# EAGLE library part XBEE_UPDATE (library xbee_improved)
Digi XBee and XBee Pro XBees are tiny blue chips that can communicate wirelessly with each other. They can do simple things, like replacing a couple of wires in serial communication, which is nice when you want to make a remote for your paintball vehicle. SparkFun Products SparkFun XBee Buying Guide <https://www.sparkfun.com/pages/xbee_guide> SparkFun XBee Explorer USB <https://www.sparkfun.com/products/11812> (WRL-11812) Breakout Board for XBee Module <https://www.sparkfun.com/products/8276> (WRL-8276) SparkFun XBee Explorer Regulated <https://www.sparkfun.com/products/11373> (WRL-11373) SparkFun XBee Explorer Dongle <https://www.sparkfun.com/products/11697> (WRL-11697) SparkFun XBee Shield <https://www.sparkfun.com/products/12847> (WRL-12847) SparkFun XBee Explorer Serial <https://www.sparkfun.com/products/13225> (WRL-13225)
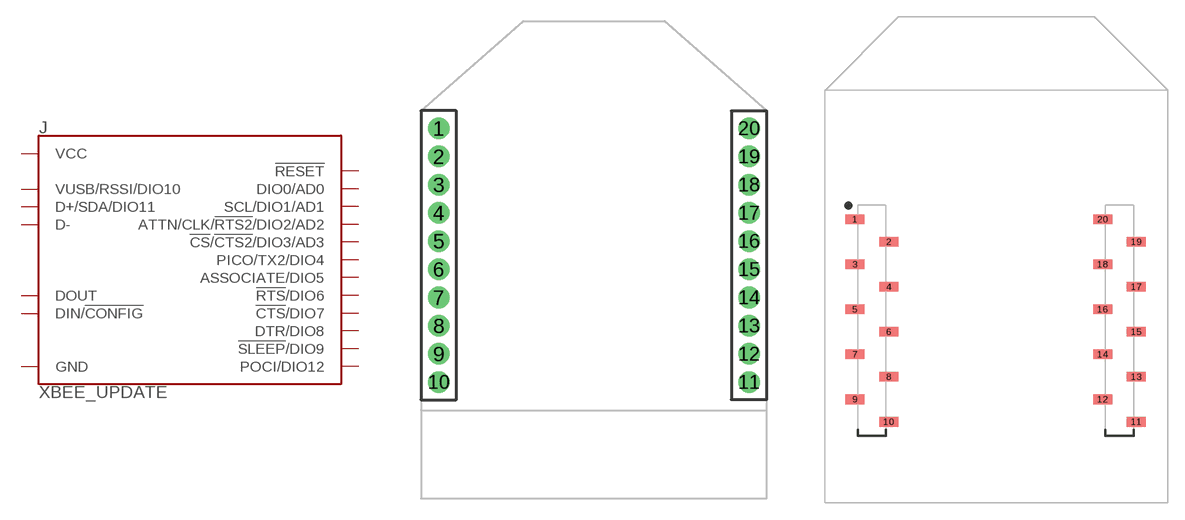
[diagram p1: symbol with the pads of XBEE; footprints XBEE, XBEE-SMD_SILK]

Designator prefix J

## XBEE_UPDATE  [XBEE]
1  VCC  pwr
2  DOUT  out
3  DIN/!CONFIG!  in
4  POCI/DIO12
5  !RESET!  in
6  VUSB/RSSI/DIO10
7  D+/SDA/DIO11
8  D-
9  DTR/DIO8
10  GND  pwr
11  PICO/TX2/DIO4
12  !CTS!/DIO7  out
13  !SLEEP!/DIO9
15  ASSOCIATE/DIO5
16  !RTS!/DIO6  in
17  !CS!/!CTS2!/DIO3/AD3
18  ATTN/CLK/!RTS2!/DIO2/AD2
19  SCL/DIO1/AD1
20  DIO0/AD0

## XBEE_UPDATEXBEE_SMD (PROD_ID: WRL-17581)  [XBEE-SMD_SILK]
Pads as for XBEE

## Footprint XBEE (pad centres in mm)
Digi XBee and XBee-PRO RF Modules 20-pin 2mm PTH headers. XBee Mechanical Drawings <https://www.sparkfun.com/datasheets/Wireless/Zigbee/XBee-Dimensional.pdf> Header Mechanical Drawing <http://www.sparkfun.com/datasheets/Prototyping/XBee-Connector.pdf> Header SparkFun Product Link <https://www.sparkfun.com/products/8272>
drill 0.8 pad 1.524: 1 -11,20; 2 -11,18; 3 -11,16; 4 -11,14; 5 -11,12; 6 -11,10; 7 -11,8; 8 -11,6; 9 -11,4; 10 -11,2; 11 11,2; 12 11,4; 13 11,6; 14 11,8; 15 11,10; 16 11,12; 17 11,14; 18 11,16; 19 11,18; 20 11,20

## Footprint XBEE-SMD_SILK (pad centres in mm)
Digi XBee and XBee-PRO RF Modules (SMD pads) 20-pin 2mm SMD headers.
smd 1.7 x 0.85: 1 -12.5,11.11; 2 -9.5,9.11; 3 -12.5,7.11; 4 -9.5,5.11; 5 -12.5,3.11; 6 -9.5,1.11; 7 -12.5,-0.89; 8 -9.5,-2.89; 9 -12.5,-4.89; 10 -9.5,-6.89; 11 12.5,-6.89; 12 9.5,-4.89; 13 12.5,-2.89; 14 9.5,-0.89; 15 12.5,1.11; 16 9.5,3.11; 17 12.5,5.11; 18 9.5,7.11; 19 12.5,9.11; 20 9.5,11.11